# Altium footprint library LGA8S40P3X3_11X11X38.PcbLib: 1 footprints
Each footprint in its own frame and in the unit in brackets; x right, y up, seen from the top. Pads: shape width x height; smd on the part's side, far side on the other; paste and mask are expansions set on the pad; w line width, h text height; cw(c..) or ccw(c..) is an arc to the next point about the centre after c.
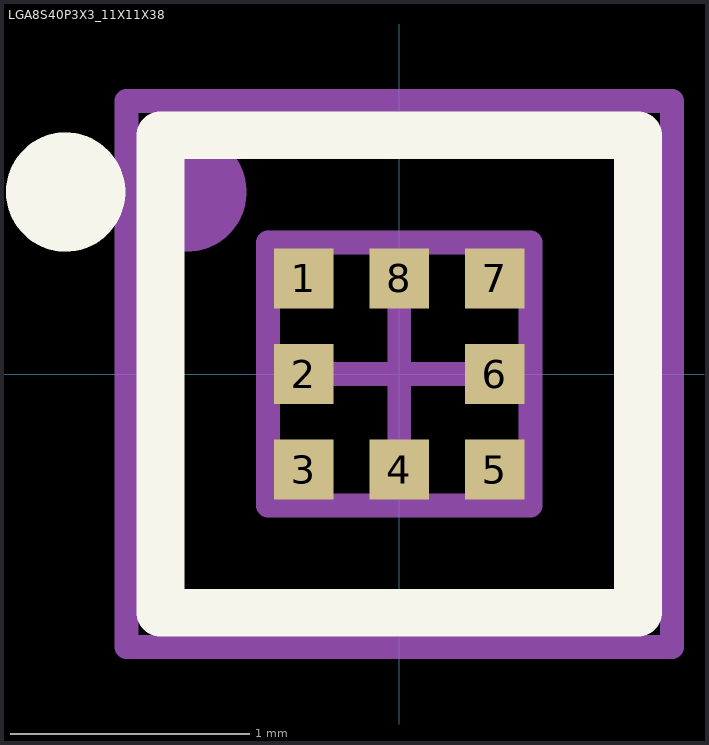
[diagram p0: the footprint, top view; thin cyan lines are the x and y axes]

## LGA8S40P3X3_11X11X38 [mm]
pads (8):
  rect 0.25x0.25 smd paste-0.125 mask+0: 1(-0.4,0.4) 2(-0.4,0) 3(-0.4,-0.4) 4(0,-0.4) 5(0.4,-0.4) 6(0.4,0) 7(0.4,0.4) 8(0,0.4)
Top Overlay:
  circle w0.25: c-1.397,0.762 r0.125
  lines w0.2: -1,-1 -1,1 1,1 1,-1 -1,-1
Top Paste:
  circle w0.125: c0.4,0.4 r0.062
  circle w0.125: c0,0.4 r0.062
  circle w0.125: c-0.4,0.4 r0.062
  circle w0.125: c-0.4,0 r0.062
  circle w0.125: c0.4,0 r0.062
  circle w0.125: c0.4,-0.4 r0.062
  circle w0.125: c0,-0.4 r0.062
  circle w0.125: c-0.4,-0.4 r0.062
Mechanical 1:
  circle w0.25: c-0.889,0.762 r0.125
  lines w0.1: -0.55,-0.55 0.55,-0.55 0.55,0.55 -0.55,0.55 -0.55,-0.55
  text ".DESIGNATOR" at 0,0 h0.6
Mechanical 13:
  lines w0.1: -0.55,-0.55 -0.55,0.55 0.55,0.55 0.55,-0.55 -0.55,-0.55
Mechanical 15:
  lines w0.1: -0.5,0 0.5,0 ; 0,-0.5 0,0.5 ; -1.143,-1.143 -1.143,1.143 1.143,1.143 1.143,-1.143 -1.143,-1.143
3D body "PG-TSNP-8-1.step": height 0.4, standoff 0, extent -0.55,-0.55 0.55,0.55